# EAGLE library part 416131160805 (library Wurth_Elektronik_Electromechanic_Switch_rev16b)
1.27 mm small compact SMD flat actuator with top tape WS-DISV,10 pins,5 poles <http://katalog.we-online.de/media/images/v2/Family_WS-HP_4161311608xx.jpg> Details see: http://katalog.we-online.de/en/em/DISV_1_27_SMALL_COMPACT_SMD_FLAT_ACTUATOR 2015 (C) Wurth Elektronik
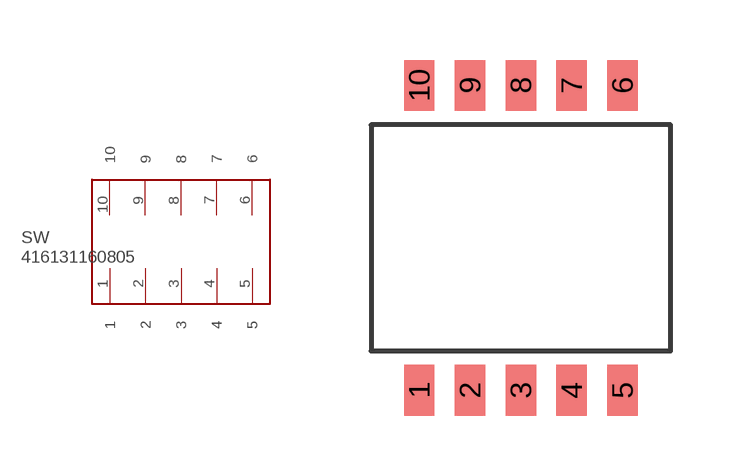
[diagram p26: symbol with the pads of 416131160805; footprint 416131160805]

Designator prefix SW

## 416131160805  [416131160805]
1  1
2  2
3  3
4  4
5  5
6  6
7  7
8  8
9  9
10  10

## Footprint 416131160805 (pad centres in mm)
WS-HP-1.27 mm small compact SMD Dip Switch with top tape,10 pins,5 poles
smd 0.76 x 1.27: 1 -2.54,-3.81; 2 -1.27,-3.81; 3 0,-3.81; 4 1.27,-3.81; 5 2.54,-3.81; 6 2.54,3.81; 7 1.27,3.81; 8 0,3.81; 9 -1.27,3.81; 10 -2.54,3.81